# Altium schematic symbol library myschlib.SchLib: 79 symbols
Pins are listed as number, name and electrical type; pins without a type are passive.

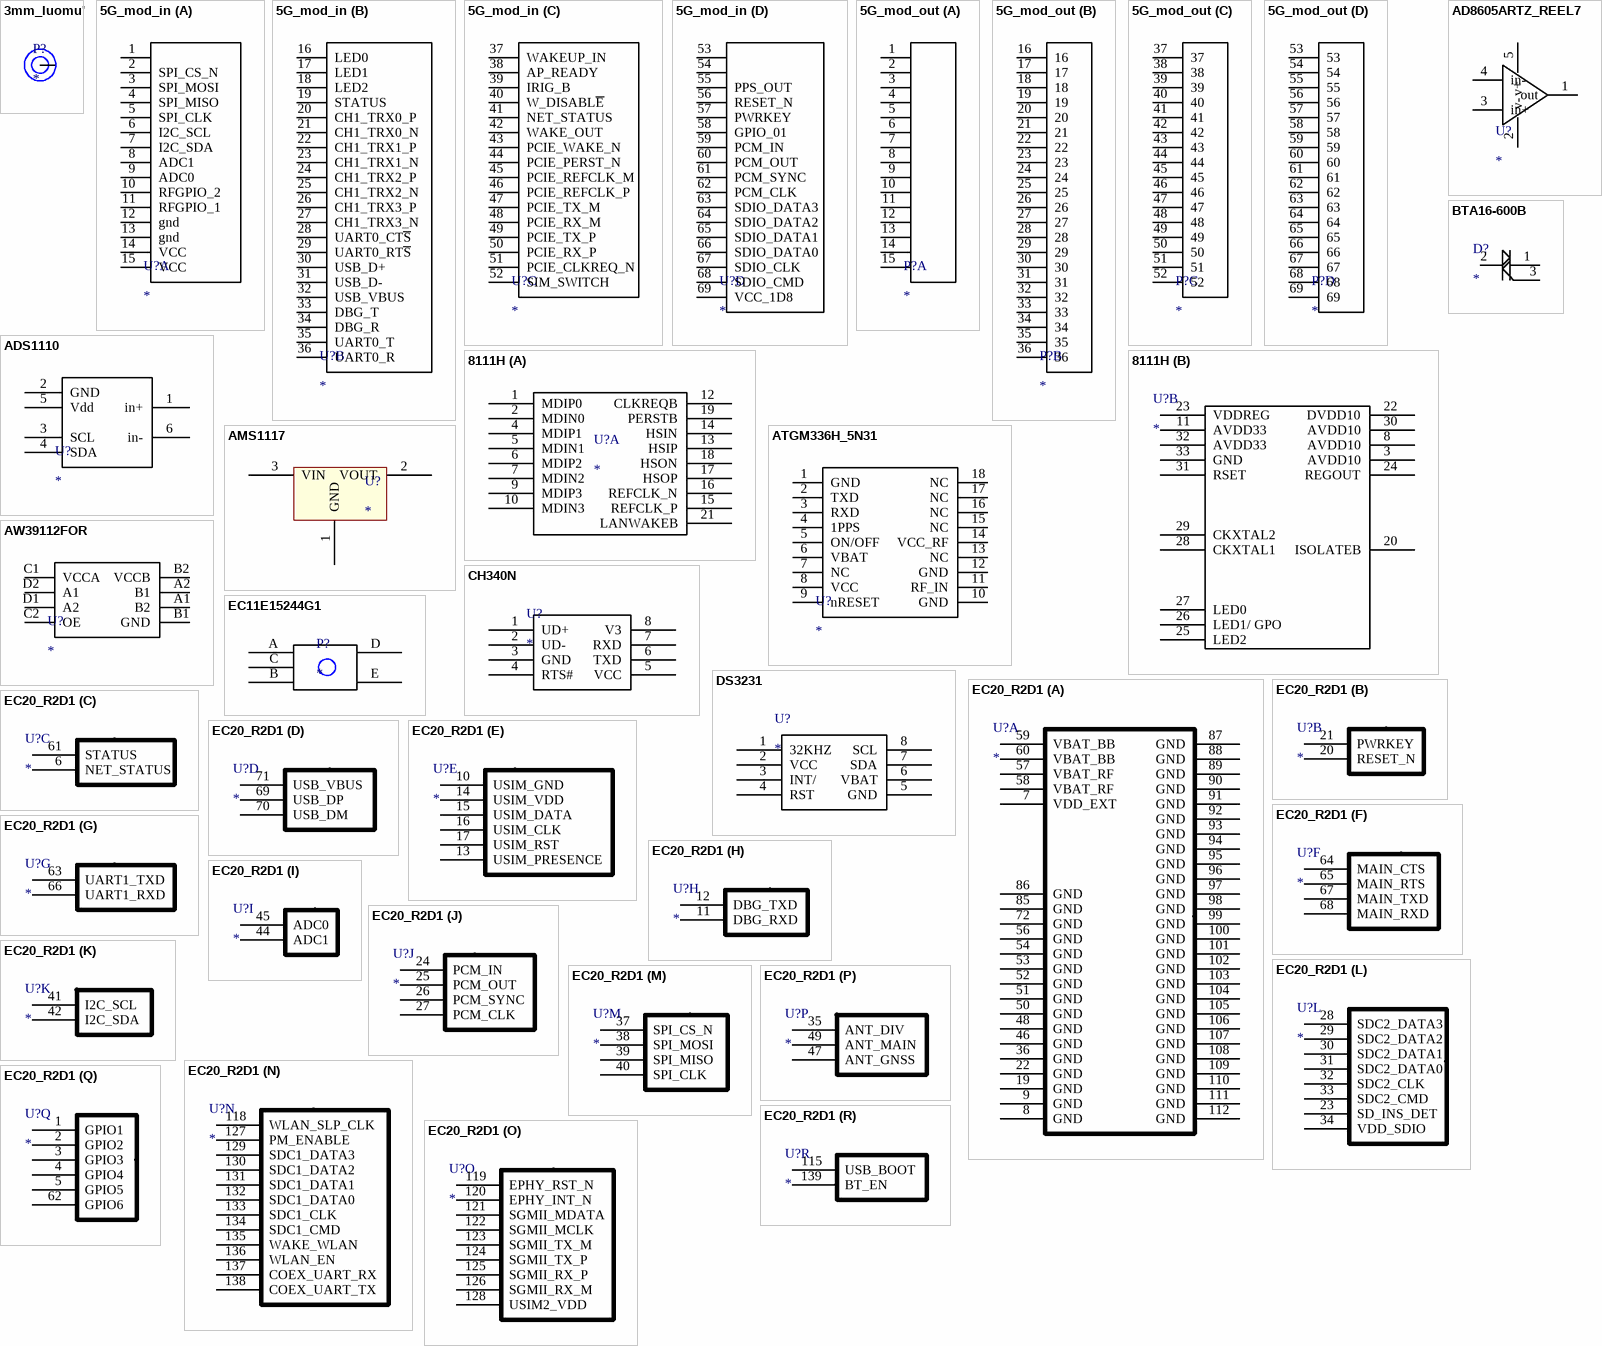
[diagram p0: symbols 3mm_luomu' to EC20_R2D1]

## 3mm_luomu'
designator P?
footprint 3mm_luokong
pins: 1 NA

## 5G_mod_in
designator U?
footprint 5GRMOD_DQQ
part A pins: 1, 2 SPI_CS_N, 3 SPI_MOSI, 4 SPI_MISO, 5 SPI_CLK, 6 I2C_SCL, 7 I2C_SDA, 8 ADC1, 9 ADC0, 10 RFGPIO_2, 11 RFGPIO_1, 12 gnd, 13 gnd, 14 VCC, 15 VCC
part B pins: 16 LED0, 17 LED1, 18 LED2, 19 STATUS, 20 CH1_TRX0_P, 21 CH1_TRX0_N, 22 CH1_TRX1_P, 23 CH1_TRX1_N, 24 CH1_TRX2_P, 25 CH1_TRX2_N, 26 CH1_TRX3_P, 27 CH1_TRX3_N, 28 UART0_CT~{S}, 29 UART0_RT~{S}, 30 USB_D+, 31 USB_D-, 32 USB_VBUS, 33 DBG_T, 34 DBG_R, 35 UART0_T, 36 UART0_R
part C pins: 37 WAKEUP_IN, 38 AP_READY, 39 IRIG_B, 40 W_DISABL~{E}, 41 NET_STATUS, 42 WAKE_OUT, 43 PCIE_WAKE_N, 44 PCIE_PERST_N, 45 PCIE_REFCLK_M, 46 PCIE_REFCLK_P, 47 PCIE_TX_M, 48 PCIE_RX_M, 49 PCIE_TX_P, 50 PCIE_RX_P, 51 PCIE_CLKREQ_N, 52 SIM_SWITCH
part D pins: 53, 54, 55 PPS_OUT, 56 RESET_N, 57 PWRKEY, 58 GPIO_01, 59 PCM_IN, 60 PCM_OUT, 61 PCM_SYNC, 62 PCM_CLK, 63 SDIO_DATA3, 64 SDIO_DATA2, 65 SDIO_DATA1, 66 SDIO_DATA0, 67 SDIO_CLK, 68 SDIO_CMD, 69 VCC_1D8

## 5G_mod_out
designator P?
footprint 5GRMOD_dq
part A pins: 1  , 2  , 3  , 4  , 5  , 6  , 7  , 8  , 9  , 10  , 11  , 12  , 13  , 14  , 15  
part B pins: 16, 17, 18, 19, 20, 21, 22, 23, 24, 25, 26, 27, 28, 29, 30, 31, 32, 33, 34, 35, 36
part C pins: 37, 38, 39, 40, 41, 42, 43, 44, 45, 46, 47, 48, 49, 50, 51, 52
part D pins: 53, 54, 55, 56, 57, 58, 59, 60, 61, 62, 63, 64, 65, 66, 67, 68, 69

## 8111H
designator U?
footprint QFN_32_EP_4x4
part A pins: 1 MDIP0, 2 MDIN0, 4 MDIP1, 5 MDIN1, 6 MDIP2, 7 MDIN2, 9 MDIP3, 10 MDIN3, 12 CLKREQB, 13 HSIP, 14 HSIN, 15 REFCLK_P, 16 REFCLK_N, 17 HSOP, 18 HSON, 19 PERSTB, 21 LANWAKEB
part B pins: 3 AVDD10, 8 AVDD10, 11 AVDD33, 20 ISOLATEB, 22 DVDD10, 23 VDDREG, 24 REGOUT, 25 LED2, 26 LED1/ GPO, 27 LED0, 28 CKXTAL1, 29 CKXTAL2, 30 AVDD10, 31 RSET, 32 AVDD33, 33 GND

## AD8605ARTZ_REEL7
designator U?
footprint SOT-23-5
pins: 1 out, 2 v-, 3 in+, 4 in-, 5 v+

## ADS1110
designator U?
footprint SOT-23-6
pins: 1 in+, 2 GND, 3 SCL, 4 SDA, 5 Vdd, 6 in-

## AMS1117
designator U?
footprint SOT223_4
pins: 1 GND, 2 VOUT, 3 VIN

## ATGM336H_5N31
designator U?
footprint LCC_18
pins: 1 GND, 2 TXD, 3 RXD, 4 1PPS, 5 ON/OFF, 6 VBAT, 7 NC, 8 VCC, 9 nRESET, 10 GND, 11 RF_IN, 12 GND, 13 NC, 14 VCC_RF, 15 NC, 16 NC, 17 NC, 18 NC

## AW39112FOR
designator U?
footprint FOWLP_8B
pins: A1 B2, A2 B1, B1 GND, B2 VCCB, C1 VCCA, C2 OE, D1 A2, D2 A1

## BTA16-600B
designator D?
footprint TO_220
pins: 1 T1, 2 T2, 3 G

## CH340N
designator U?
footprint SOP_8
pins: 1 UD+, 2 UD-, 3 GND, 4 RTS#, 5 VCC, 6 TXD, 7 RXD, 8 V3

## DS3231
designator U?
footprint SOIC_8
pins: 1 32KHZ, 2 VCC, 3 INT/, 4 RST, 5 GND, 6 VBAT, 7 SDA, 8 SCL

## EC11E15244G1
designator P?
footprint DIP_EC11
pins: A, B, C, D, E

## EC20_R2D1
designator U?
footprint LCC_144
part A pins: 7 VDD_EXT, 8 GND, 9 GND, 19 GND, 22 GND, 36 GND, 46 GND, 48 GND, 50 GND, 51 GND, 52 GND, 53 GND, 54 GND, 56 GND, 57 VBAT_RF, 58 VBAT_RF, 59 VBAT_BB, 60 VBAT_BB, 72 GND, 85 GND, 86 GND, 87 GND, 88 GND, 89 GND, 90 GND, 91 GND, 92 GND, 93 GND, 94 GND, 95 GND, 96 GND, 97 GND, 98 GND, 99 GND, 100 GND, 101 GND, 102 GND, 103 GND, 104 GND, 105 GND, 106 GND, 107 GND, 108 GND, 109 GND, 110 GND, 111 GND, 112 GND
part B pins: 20 RESET_N, 21 PWRKEY
part C pins: 6 NET_STATUS, 61 STATUS
part D pins: 69 USB_DP, 70 USB_DM, 71 USB_VBUS
part E pins: 10 USIM_GND, 13 USIM_PRESENCE, 14 USIM_VDD, 15 USIM_DATA, 16 USIM_CLK, 17 USIM_RST
part F pins: 64 MAIN_CTS, 65 MAIN_RTS, 67 MAIN_TXD, 68 MAIN_RXD
part G pins: 63 UART1_TXD, 66 UART1_RXD
part H pins: 11 DBG_RXD, 12 DBG_TXD
part I pins: 44 ADC1, 45 ADC0
part J pins: 24 PCM_IN, 25 PCM_OUT, 26 PCM_SYNC, 27 PCM_CLK
part K pins: 41 I2C_SCL, 42 I2C_SDA
part L pins: 23 SD_INS_DET, 28 SDC2_DATA3, 29 SDC2_DATA2, 30 SDC2_DATA1, 31 SDC2_DATA0, 32 SDC2_CLK, 33 SDC2_CMD, 34 VDD_SDIO
part M pins: 37 SPI_CS_N, 38 SPI_MOSI, 39 SPI_MISO, 40 SPI_CLK
part N pins: 118 WLAN_SLP_CLK, 127 PM_ENABLE, 129 SDC1_DATA3, 130 SDC1_DATA2, 131 SDC1_DATA1, 132 SDC1_DATA0, 133 SDC1_CLK, 134 SDC1_CMD, 135 WAKE_WLAN, 136 WLAN_EN, 137 COEX_UART_RX, 138 COEX_UART_TX
part O pins: 119 EPHY_RST_N, 120 EPHY_INT_N, 121 SGMII_MDATA, 122 SGMII_MCLK, 123 SGMII_TX_M , 124 SGMII_TX_P, 125 SGMII_RX_P, 126 SGMII_RX_M, 128 USIM2_VDD
part P pins: 35 ANT_DIV, 47 ANT_GNSS, 49 ANT_MAIN
part Q pins: 1 GPIO1, 2 GPIO2, 3 GPIO3, 4 GPIO4, 5 GPIO5, 62 GPIO6
part R pins: 115 USB_BOOT, 139 BT_EN

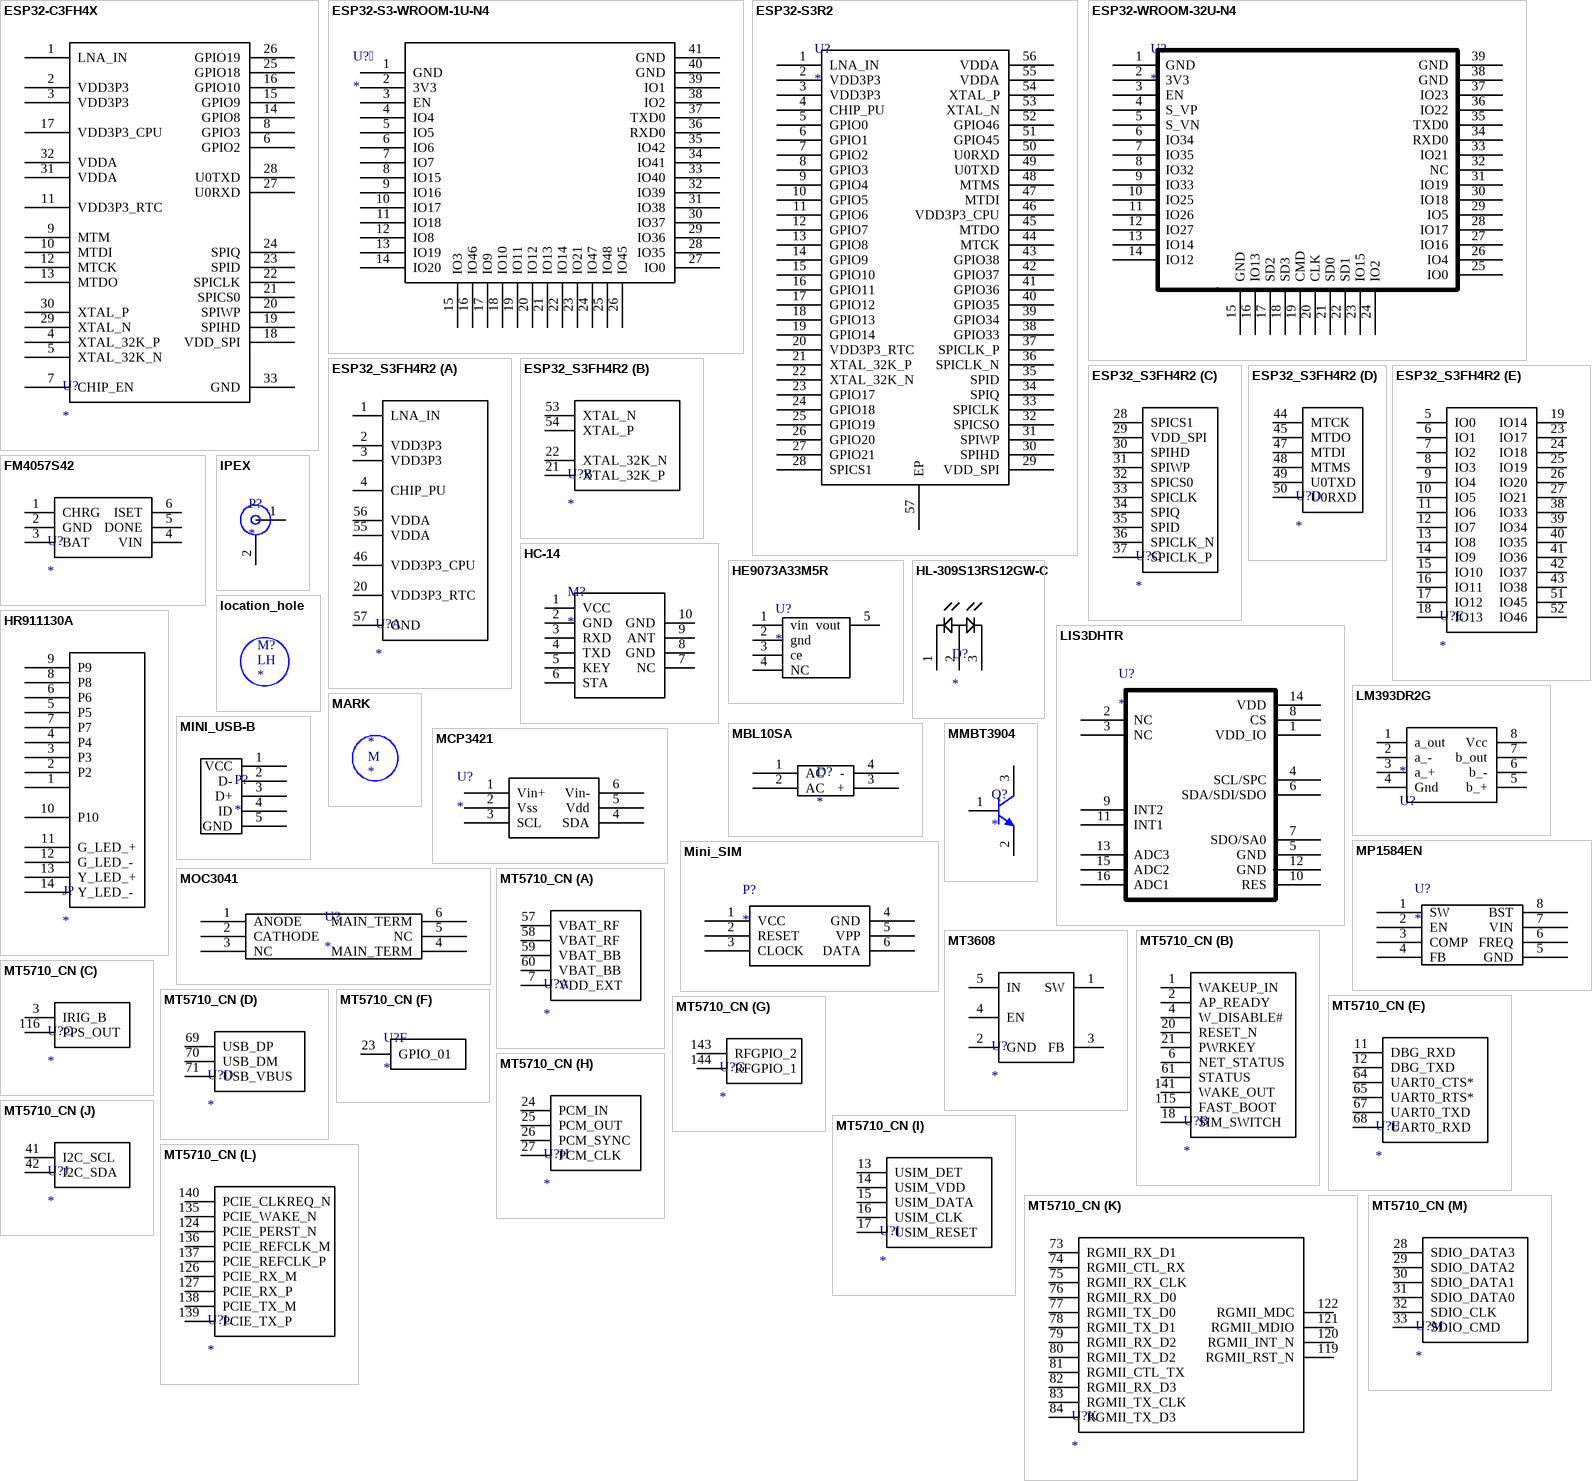
[diagram p1: symbols ESP32-C3FH4X to MT5710_CN]

## ESP32-C3FH4X
designator U?
footprint QFN_32_5x5
pins: 1 LNA_IN, 2 VDD3P3, 3 VDD3P3, 4 XTAL_32K_P, 5 XTAL_32K_N, 6 GPIO2, 7 CHIP_EN, 8 GPIO3, 9 MTM, 10 MTDI, 11 VDD3P3_RTC, 12 MTCK, 13 MTDO, 14 GPIO8, 15 GPIO9, 16 GPIO10, 17 VDD3P3_CPU, 18 VDD_SPI, 19 SPIHD, 20 SPIWP, 21 SPICS0, 22 SPICLK, 23 SPID, 24 SPIQ, 25 GPIO18, 26 GPIO19, 27 U0RXD, 28 U0TXD, 29 XTAL_N, 30 XTAL_P, 31 VDDA, 32 VDDA, 33 GND

## ESP32-S3-WROOM-1U-N4
designator U?
footprint ESP32_S3_WROOM_1U_N4
pins: 1 GND, 2 3V3, 3 EN, 4 IO4, 5 IO5, 6 IO6, 7 IO7, 8 IO15, 9 IO16, 10 IO17, 11 IO18, 12 IO8, 13 IO19, 14 IO20, 15 IO3, 16 IO46, 17 IO9, 18 IO10, 19 IO11, 20 IO12, 21 IO13, 22 IO14, 23 IO21, 24 IO47, 25 IO48, 26 IO45, 27 IO0, 28 IO35, 29 IO36, 30 IO37, 31 IO38, 32 IO39, 33 IO40, 34 IO41, 35 IO42, 36 RXD0, 37 TXD0, 38 IO2, 39 IO1, 40 GND, 41 GND

## ESP32-S3R2
designator U?
footprint QFN56_7X7
pins: 1 LNA_IN, 2 VDD3P3, 3 VDD3P3, 4 CHIP_PU, 5 GPIO0, 6 GPIO1, 7 GPIO2, 8 GPIO3, 9 GPIO4, 10 GPIO5, 11 GPIO6, 12 GPIO7, 13 GPIO8, 14 GPIO9, 15 GPIO10, 16 GPIO11, 17 GPIO12, 18 GPIO13, 19 GPIO14, 20 VDD3P3_RTC, 21 XTAL_32K_P, 22 XTAL_32K_N, 23 GPIO17, 24 GPIO18, 25 GPIO19, 26 GPIO20, 27 GPIO21, 28 SPICS1, 29 VDD_SPI, 30 SPIHD, 31 SPIWP, 32 SPICSO, 33 SPICLK, 34 SPIQ, 35 SPID, 36 SPICLK_N, 37 SPICLK_P, 38 GPIO33, 39 GPIO34, 40 GPIO35, 41 GPIO36, 42 GPIO37, 43 GPIO38, 44 MTCK, 45 MTDO, 46 VDD3P3_CPU, 47 MTDI, 48 MTMS, 49 U0TXD, 50 U0RXD, 51 GPIO45, 52 GPIO46, 53 XTAL_N, 54 XTAL_P, 55 VDDA, 56 VDDA, 57 EP

## ESP32-WROOM-32U-N4
designator U?
footprint ESP32_WROOM_32U
pins: 1 GND, 2 3V3, 3 EN, 4 S_VP, 5 S_VN, 6 IO34, 7 IO35, 8 IO32, 9 IO33, 10 IO25, 11 IO26, 12 IO27, 13 IO14, 14 IO12, 15 GND, 16 IO13, 17 SD2, 18 SD3, 19 CMD, 20 CLK, 21 SD0, 22 SD1, 23 IO15, 24 IO2, 25 IO0, 26 IO4, 27 IO16, 28 IO17, 29 IO5, 30 IO18, 31 IO19, 32 NC, 33 IO21, 34 RXD0, 35 TXD0, 36 IO22, 37 IO23, 38 GND, 39 GND

## ESP32_S3FH4R2
designator U?
footprint QFN_56_7x7
part A pins: 1 LNA_IN, 2 VDD3P3, 3 VDD3P3, 4 CHIP_PU, 20 VDD3P3_RTC, 46 VDD3P3_CPU, 55 VDDA, 56 VDDA, 57 GND
part B pins: 21 XTAL_32K_P, 22 XTAL_32K_N, 53 XTAL_N, 54 XTAL_P
part C pins: 28 SPICS1, 29 VDD_SPI, 30 SPIHD, 31 SPIWP, 32 SPICS0, 33 SPICLK, 34 SPIQ, 35 SPID, 36 SPICLK_N, 37 SPICLK_P
part D pins: 44 MTCK, 45 MTDO, 47 MTDI, 48 MTMS, 49 U0TXD, 50 U0RXD
part E pins: 5 IO0, 6 IO1, 7 IO2, 8 IO3, 9 IO4, 10 IO5, 11 IO6, 12 IO7, 13 IO8, 14 IO9, 15 IO10, 16 IO11, 17 IO12, 18 IO13, 19 IO14, 23 IO17, 24 IO18, 25 IO19, 26 IO20, 27 IO21, 38 IO33, 39 IO34, 40 IO35, 41 IO36, 42 IO37, 43 IO38, 51 IO45, 52 IO46

## FM4057S42
designator U?
footprint SOT-23-6
pins: 1 CHRG, 2 GND, 3 BAT, 4 VIN, 5 DONE, 6 ISET

## HC-14
designator M?
footprint HC_14
pins: 1 VCC, 2 GND, 3 RXD, 4 TXD, 5 KEY, 6 STA, 7 NC, 8 GND, 9 ANT, 10 GND

## HE9073A33M5R
designator U?
footprint SOT-23-5
pins: 1 vin, 2 gnd, 3 ce, 4 NC, 5 vout

## HL-309S13RS12GW-C
designator D?
2LED
pins: 1 GREEN, 2 COMMON_CATHODE, 3 RED

## HR911130A
designator J?
footprint RJ45_MagJack_14P
pins: 1, 2 P2, 3 P3, 4 P4, 5 P5, 6 P6, 7 P7, 8 P8, 9 P9, 10 P10, 11 G_LED_+, 12 G_LED_-, 13 Y_LED_+, 14 Y_LED_-

## IPEX
designator P?
footprint SMD_IPEX
pins: 1 RF_IN, 2 GND

## LIS3DHTR
designator U?
footprint LGA_16
pins: 1 VDD_IO, 2 NC, 3 NC, 4 SCL/SPC, 5 GND, 6 SDA/SDI/SDO, 7 SDO/SA0, 8 CS, 9 INT2, 10 RES, 11 INT1, 12 GND, 13 ADC3, 14 VDD, 15 ADC2, 16 ADC1

## LM393DR2G
designator *, comment U?
pins: 1 a_out, 2 a_-, 3 a_+, 4 Gnd, 5 b_+, 6 b_-, 7 b_out, 8 Vcc

## location_hole
designator M?
footprint location_hole
text: LH

## MARK
designator *
footprint MARK
text: M

## MBL10SA
designator D?
footprint MBLS
pins: 1 AC, 2 AC, 3 +, 4 -

## MCP3421
designator U?
pins: 1 Vin+, 2 Vss, 3 SCL, 4 SDA, 5 Vdd, 6 Vin-

## Mini_SIM
designator P?
footprint MiniSIM_card
pins: 1 VCC, 2 RESET, 3 CLOCK, 4 GND, 5 VPP, 6 DATA

## MINI_USB-B
designator P?
footprint MINI_USB_B
pins: 1 VCC, 2 D-, 3 D+, 4 ID, 5 GND

## MMBT3904
designator Q?
footprint SOT23
pins: 1 B, 2 E, 3 C

## MOC3041
designator U?
footprint DIP6
pins: 1 ANODE, 2 CATHODE, 3 NC, 4 MAIN_TERM, 5 NC, 6 MAIN_TERM

## MP1584EN
designator U?
footprint SOIC_8
pins: 1 SW, 2 EN, 3 COMP, 4 FB, 5 GND, 6 FREQ, 7 VIN, 8 BST

## MT3608
designator U?
footprint SOT-23-6
pins: 1 SW, 2 GND, 3 FB, 4 EN, 5 IN

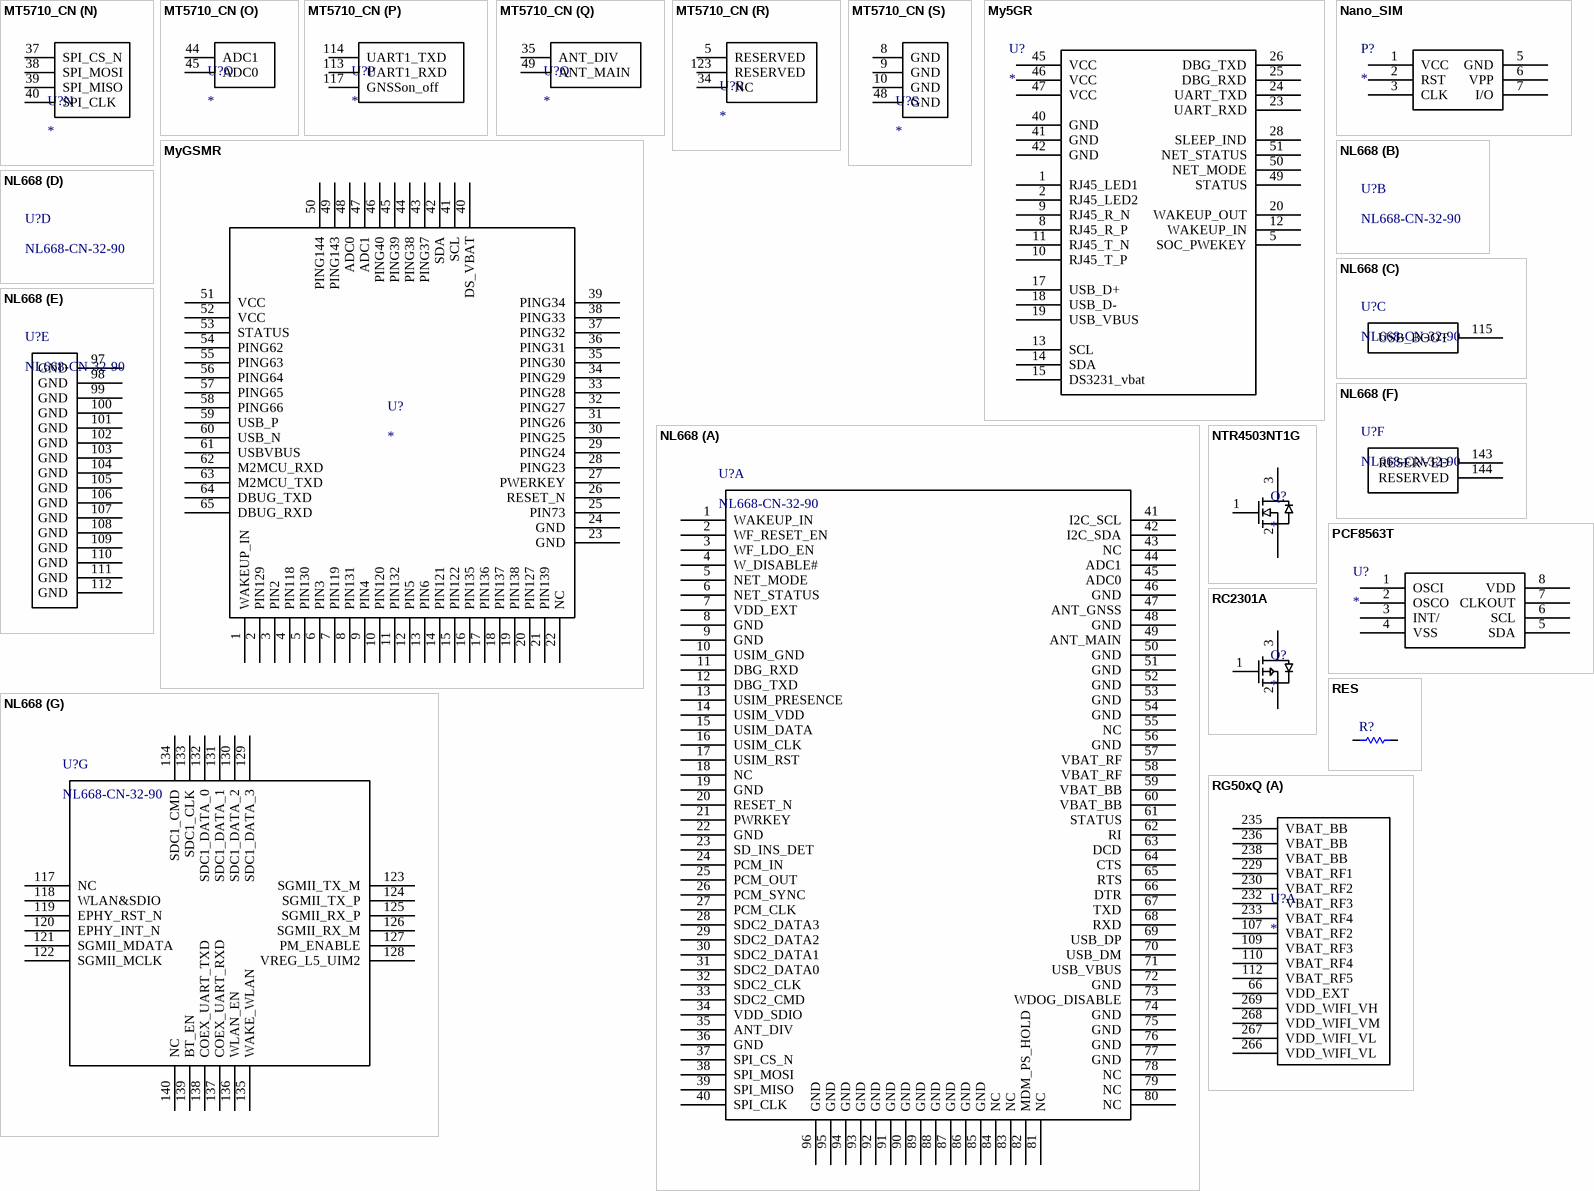
[diagram p2: symbols MT5710_CN to RG50xQ]

## MT5710_CN
designator U?
part A pins: 7 VDD_EXT, 57 VBAT_RF, 58 VBAT_RF, 59 VBAT_BB, 60 VBAT_BB
part B pins: 1 WAKEUP_IN, 2 AP_READY, 4 W_DISABLE#, 6 NET_STATUS , 18 SIM_SWITCH, 20 RESET_N, 21 PWRKEY, 61 STATUS, 115 FAST_BOOT, 141 WAKE_OUT
part C pins: 3 IRIG_B, 116 PPS_OUT
part D pins: 69 USB_DP, 70 USB_DM, 71 USB_VBUS
part E pins: 11 DBG_RXD, 12 DBG_TXD, 64 UART0_CTS*, 65 UART0_RTS*, 67 UART0_TXD, 68 UART0_RXD
part F pins: 23 GPIO_01
part G pins: 143 RFGPIO_2, 144 RFGPIO_1
part H pins: 24 PCM_IN, 25 PCM_OUT, 26 PCM_SYNC, 27 PCM_CLK
part I pins: 13 USIM_DET, 14 USIM_VDD, 15 USIM_DATA, 16 USIM_CLK, 17 USIM_RESET
part J pins: 41 I2C_SCL, 42 I2C_SDA
part K pins: 73 RGMII_RX_D1, 74 RGMII_CTL_RX, 75 RGMII_RX_CLK , 76 RGMII_RX_D0, 77 RGMII_TX_D0, 78 RGMII_TX_D1, 79 RGMII_RX_D2 , 80 RGMII_TX_D2, 81 RGMII_CTL_TX, 82 RGMII_RX_D3, 83 RGMII_TX_CLK, 84 RGMII_TX_D3, 119 RGMII_RST_N, 120 RGMII_INT_N, 121 RGMII_MDIO, 122 RGMII_MDC
part L pins: 124 PCIE_PERST_N, 126 PCIE_RX_M, 127 PCIE_RX_P, 135 PCIE_WAKE_N, 136 PCIE_REFCLK_M, 137 PCIE_REFCLK_P, 138 PCIE_TX_M, 139 PCIE_TX_P, 140 PCIE_CLKREQ_N
part M pins: 28 SDIO_DATA3, 29 SDIO_DATA2, 30 SDIO_DATA1, 31 SDIO_DATA0, 32 SDIO_CLK, 33 SDIO_CMD
part N pins: 37 SPI_CS_N, 38 SPI_MOSI, 39 SPI_MISO, 40 SPI_CLK
part O pins: 44 ADC1, 45 ADC0
part P pins: 113 UART1_RXD, 114 UART1_TXD, 117 GNSSon_off
part Q pins: 35 ANT_DIV, 49 ANT_MAIN
part R pins: 5 RESERVED, 34 NC, 123 RESERVED
part S pins: 8 GND, 9 GND, 10 GND, 48 GND

## My5GR
designator U?
footprint MLCC_module_56
pins: 1 RJ45_LED1, 2 RJ45_LED2, 5 SOC_PWEKEY, 8 RJ45_R_P, 9 RJ45_R_N, 10 RJ45_T_P, 11 RJ45_T_N, 12 WAKEUP_IN, 13 SCL, 14 SDA, 15 DS3231_vbat, 17 USB_D+, 18 USB_D-, 19 USB_VBUS, 20 WAKEUP_OUT, 23 UART_RXD, 24 UART_TXD, 25 DBG_RXD, 26 DBG_TXD, 28 SLEEP_IND, 40 GND, 41 GND, 42 GND, 45 VCC, 46 VCC, 47 VCC, 49 STATUS, 50 NET_MODE, 51 NET_STATUS

## MyGSMR
designator U?
footprint MLCC_module_65
pins: 1 WAKEUP_IN, 2 PIN129, 3 PIN2, 4 PIN118, 5 PIN130, 6 PIN3, 7 PIN119, 8 PIN131, 9 PIN4, 10 PIN120, 11 PIN132, 12 PIN5, 13 PIN6, 14 PIN121, 15 PIN122, 16 PIN135, 17 PIN136, 18 PIN137, 19 PIN138, 20 PIN127, 21 PIN139, 22 NC, 23 GND, 24 GND, 25 PIN73, 26 RESET_N, 27 PWERKEY, 28 PING23, 29 PING24, 30 PING25, 31 PING26, 32 PING27, 33 PING28, 34 PING29, 35 PING30, 36 PING31, 37 PING32, 38 PING33, 39 PING34, 40 DS_VBAT, 41 SCL, 42 SDA, 43 PING37, 44 PING38, 45 PING39, 46 PING40, 47 ADC1, 48 ADC0, 49 PING143, 50 PING144, 51 VCC, 52 VCC, 53 STATUS, 54 PING62, 55 PING63, 56 PING64, 57 PING65, 58 PING66, 59 USB_P, 60 USB_N, 61 USBVBUS, 62 M2MCU_RXD, 63 M2MCU_TXD, 64 DBUG_TXD, 65 DBUG_RXD

## Nano_SIM
designator P?
footprint NanoSIM_card
pins: 1 VCC, 2 RST, 3 CLK, 5 GND, 6 VPP, 7 I/O

## NL668
designator U?, comment NL668-CN-32-90
footprint LCC_144
part A pins: 1 WAKEUP_IN, 2 WF_RESET_EN, 3 WF_LDO_EN, 4 W_DISABLE#, 5 NET_MODE, 6 NET_STATUS, 7 VDD_EXT, 8 GND, 9 GND, 10 USIM_GND, 11 DBG_RXD, 12 DBG_TXD, 13 USIM_PRESENCE, 14 USIM_VDD, 15 USIM_DATA, 16 USIM_CLK, 17 USIM_RST, 18 NC, 19 GND, 20 RESET_N, 21 PWRKEY, 22 GND, 23 SD_INS_DET, 24 PCM_IN, 25 PCM_OUT, 26 PCM_SYNC, 27 PCM_CLK, 28 SDC2_DATA3, 29 SDC2_DATA2, 30 SDC2_DATA1, 31 SDC2_DATA0, 32 SDC2_CLK, 33 SDC2_CMD, 34 VDD_SDIO, 35 ANT_DIV, 36 GND, 37 SPI_CS_N, 38 SPI_MOSI, 39 SPI_MISO, 40 SPI_CLK, 41 I2C_SCL, 42 I2C_SDA, 43 NC, 44 ADC1, 45 ADC0, 46 GND, 47 ANT_GNSS, 48 GND, 49 ANT_MAIN, 50 GND, 51 GND, 52 GND, 53 GND, 54 GND, 55 NC, 56 GND, 57 VBAT_RF, 58 VBAT_RF, 59 VBAT_BB, 60 VBAT_BB, 61 STATUS, 62 RI, 63 DCD, 64 CTS, 65 RTS, 66 DTR, 67 TXD, 68 RXD, 69 USB_DP, 70 USB_DM, 71 USB_VBUS, 72 GND, 73 WDOG_DISABLE, 74 GND, 75 GND, 76 GND, 77 GND, 78 NC, 79 NC, 80 NC, 81 NC, 82 MDM_PS_HOLD, 83 NC, 84 NC, 85 GND, 86 GND, 87 GND, 88 GND, 89 GND, 90 GND, 91 GND, 92 GND, 93 GND, 94 GND, 95 GND, 96 GND
part C pins: 115 USB_BOOT
part E pins: 97 GND, 98 GND, 99 GND, 100 GND, 101 GND, 102 GND, 103 GND, 104 GND, 105 GND, 106 GND, 107 GND, 108 GND, 109 GND, 110 GND, 111 GND, 112 GND
part F pins: 143 RESERVED, 144 RESERVED
part G pins: 117 NC, 118 WLAN&SDIO, 119 EPHY_RST_N, 120 EPHY_INT_N, 121 SGMII_MDATA, 122 SGMII_MCLK, 123 SGMII_TX_M, 124 SGMII_TX_P, 125 SGMII_RX_P, 126 SGMII_RX_M, 127 PM_ENABLE, 128 VREG_L5_UIM2, 129 SDC1_DATA_3, 130 SDC1_DATA_2, 131 SDC1_DATA_1, 132 SDC1_DATA_0, 133 SDC1_CLK, 134 SDC1_CMD, 135 WAKE_WLAN, 136 WLAN_EN, 137 COEX_UART_RXD, 138 COEX_UART_TXD, 139 BT_EN, 140 NC

## NTR4503NT1G
designator Q?
footprint SOT23_3
pins: 1 G, 2 S, 3 D

## PCF8563T
designator U?
AIP8563SA8.TR
footprint SOP_8
pins: 1 OSCI, 2 OSCO, 3 INT/, 4 VSS, 5 SDA, 6 SCL, 7 CLKOUT, 8 VDD

## RC2301A
designator Q?
footprint SOT23
pins: 1 G, 2 S, 3 D

## RES
designator R?
pins: 1, 2

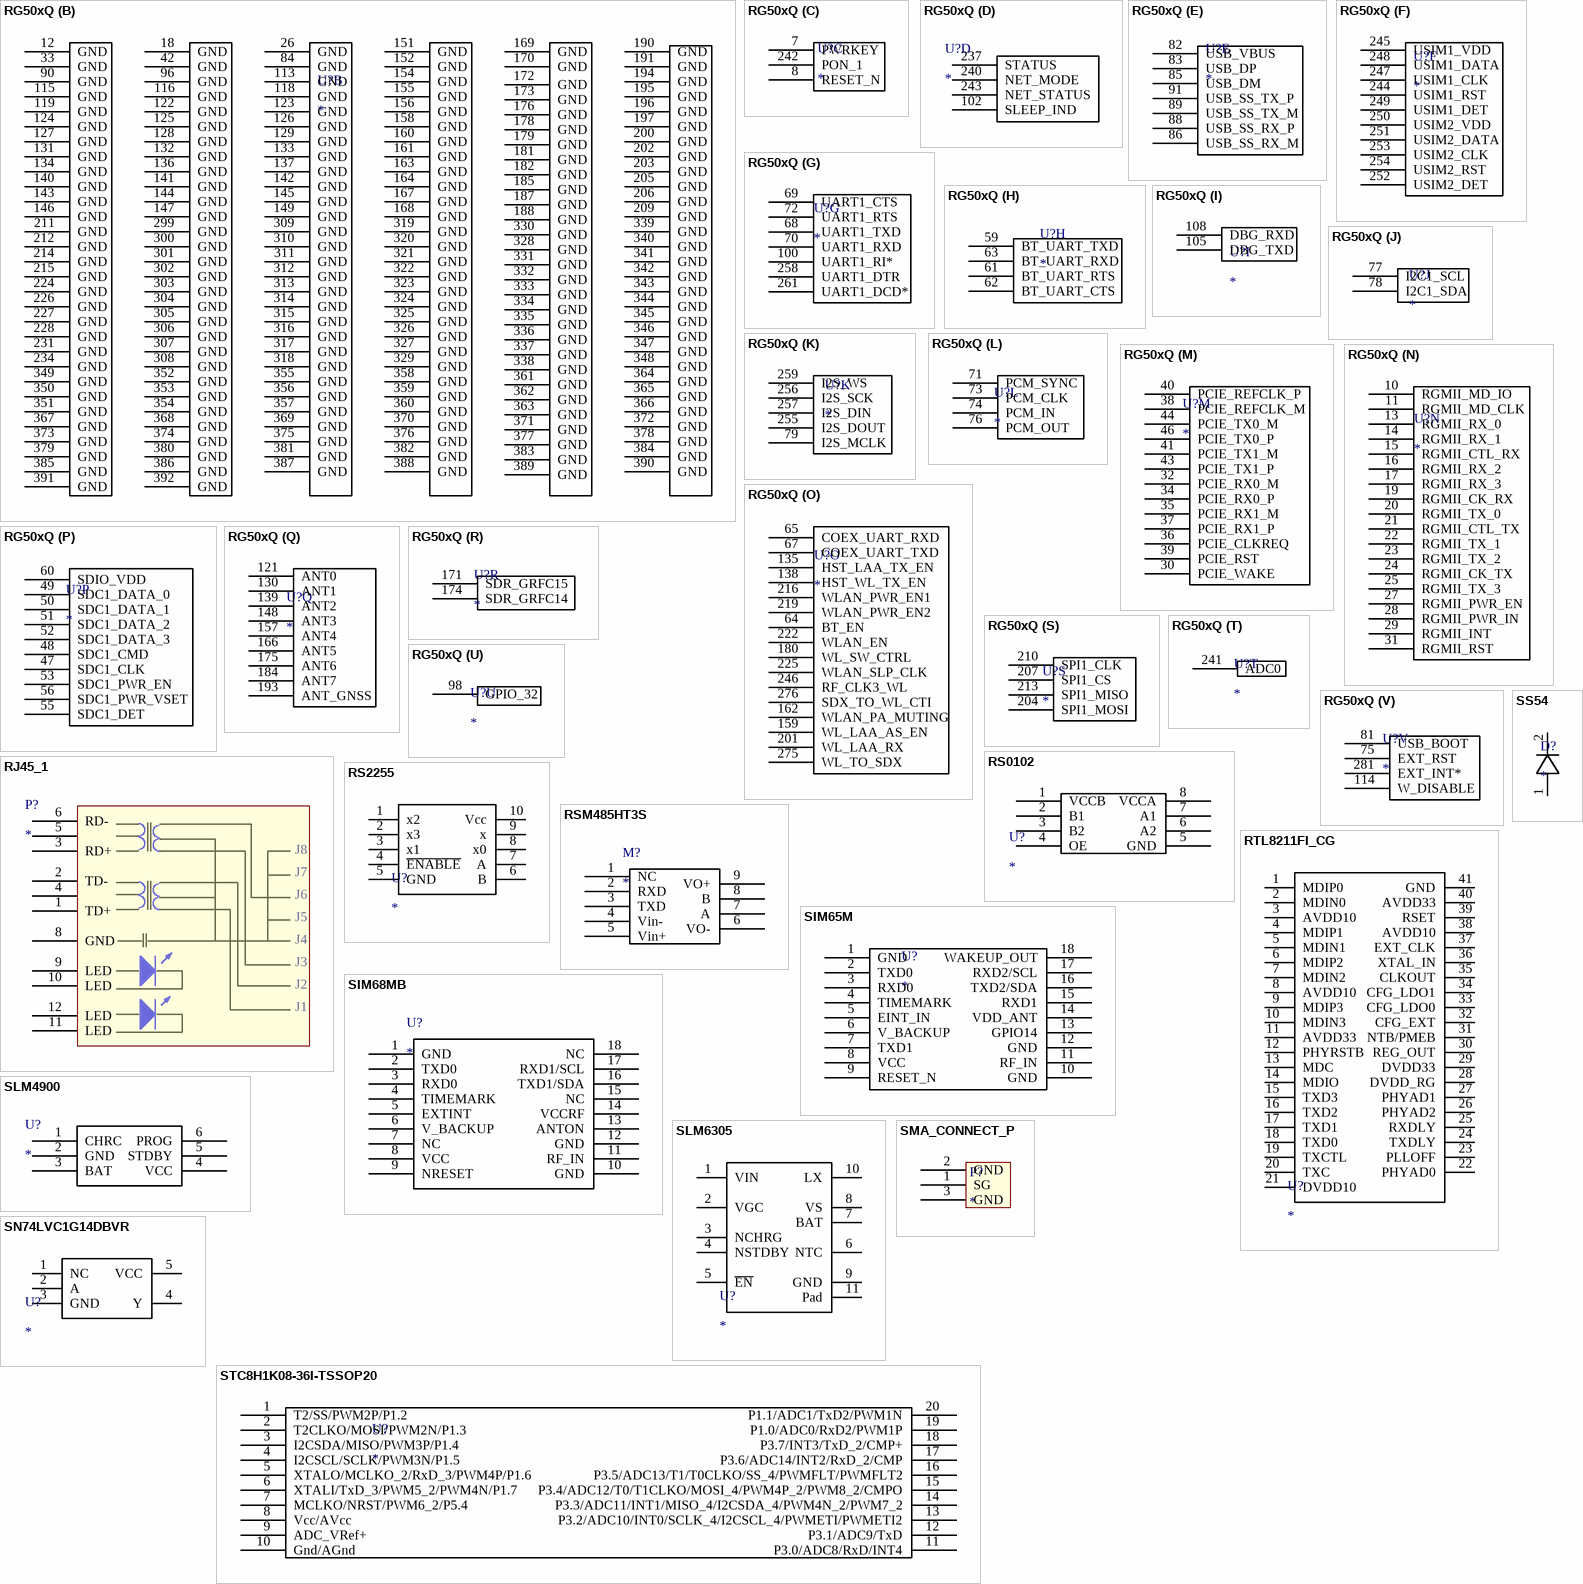
[diagram p3: symbols RG50xQ to STC8H1K08-36I-TSSOP20]

## RG50xQ
designator U?
footprint LGA_RG50xQ
part A pins: 66 VDD_EXT, 107 VBAT_RF2, 109 VBAT_RF3, 110 VBAT_RF4, 112 VBAT_RF5, 229 VBAT_RF1, 230 VBAT_RF2, 232 VBAT_RF3, 233 VBAT_RF4, 235 VBAT_BB, 236 VBAT_BB, 238 VBAT_BB, 266 VDD_WIFI_VL, 267 VDD_WIFI_VL, 268 VDD_WIFI_VM, 269 VDD_WIFI_VH
part B pins: 12 GND, 18 GND, 26 GND, 33 GND, 42 GND, 84 GND, 90 GND, 96 GND, 113 GND, 115 GND, 116 GND, 118 GND, 119 GND, 122 GND, 123 GND, 124 GND, 125 GND, 126 GND, 127 GND, 128 GND, 129 GND, 131 GND, 132 GND, 133 GND, 134 GND, 136 GND, 137 GND, 140 GND, 141 GND, 142 GND, 143 GND, 144 GND, 145 GND, 146 GND, 147 GND, 149 GND, 151 GND, 152 GND, 154 GND, 155 GND, 156 GND, 158 GND, 160 GND, 161 GND, 163 GND, 164 GND, 167 GND, 168 GND, 169 GND, 170 GND, 172 GND, 173 GND, 176 GND, 178 GND, 179 GND, 181 GND, 182 GND, 185 GND, 187 GND, 188 GND, 190 GND, 191 GND, 194 GND, 195 GND, 196 GND, 197 GND, 200 GND, 202 GND, 203 GND, 205 GND, 206 GND, 209 GND, 211 GND, 212 GND, 214 GND, 215 GND, 224 GND, 226 GND, 227 GND, 228 GND, 231 GND, 234 GND, 299 GND, 300 GND, 301 GND, 302 GND, 303 GND, 304 GND, 305 GND, 306 GND, 307 GND, 308 GND, 309 GND, 310 GND, 311 GND, 312 GND, 313 GND, 314 GND, 315 GND, 316 GND, 317 GND, 318 GND, 319 GND, 320 GND, 321 GND, 322 GND, 323 GND, 324 GND, 325 GND, 326 GND, 327 GND, 328 GND, 329 GND, 330 GND, 331 GND, 332 GND, 333 GND, 334 GND, 335 GND, 336 GND, 337 GND, 338 GND, 339 GND, 340 GND, 341 GND, 342 GND, 343 GND, 344 GND, 345 GND, 346 GND, 347 GND, 348 GND, 349 GND, 350 GND, 351 GND, 352 GND, 353 GND, 354 GND, 355 GND, 356 GND, 357 GND, 358 GND, 359 GND, 360 GND, 361 GND, 362 GND, 363 GND, 364 GND, 365 GND, 366 GND, 367 GND, 368 GND, 369 GND, 370 GND, 371 GND, 372 GND, 373 GND, 374 GND, 375 GND, 376 GND, 377 GND, 378 GND, 379 GND, 380 GND, 381 GND, 382 GND, 383 GND, 384 GND, 385 GND, 386 GND, 387 GND, 388 GND, 389 GND, 390 GND, 391 GND, 392 GND
part C pins: 7 PWRKEY, 8 RESET_N, 242 PON_1
part D pins: 102 SLEEP_IND, 237 STATUS, 240 NET_MODE, 243 NET_STATUS
part E pins: 82 USB_VBUS, 83 USB_DP, 85 USB_DM, 86 USB_SS_RX_M, 88 USB_SS_RX_P, 89 USB_SS_TX_M, 91 USB_SS_TX_P
part F pins: 244 USIM1_RST, 245 USIM1_VDD, 247 USIM1_CLK, 248 USIM1_DATA, 249 USIM1_DET, 250 USIM2_VDD, 251 USIM2_DATA, 252 USIM2_DET, 253 USIM2_CLK, 254 USIM2_RST
part G pins: 68 UART1_TXD, 69 UART1_CTS, 70 UART1_RXD, 72 UART1_RTS, 100 UART1_RI*, 258 UART1_DTR, 261 UART1_DCD*
part H pins: 59 BT_UART_TXD, 61 BT_UART_RTS, 62 BT_UART_CTS, 63 BT_UART_RXD
part I pins: 105 DBG_TXD, 108 DBG_RXD
part J pins: 77 I2C1_SCL, 78 I2C1_SDA
part K pins: 79 I2S_MCLK, 255 I2S_DOUT, 256 I2S_SCK, 257 I2S_DIN, 259 I2S_WS
part L pins: 71 PCM_SYNC, 73 PCM_CLK, 74 PCM_IN, 76 PCM_OUT
part M pins: 30 PCIE_WAKE, 32 PCIE_RX0_M, 34 PCIE_RX0_P, 35 PCIE_RX1_M, 36 PCIE_CLKREQ, 37 PCIE_RX1_P, 38 PCIE_REFCLK_M, 39 PCIE_RST, 40 PCIE_REFCLK_P, 41 PCIE_TX1_M, 43 PCIE_TX1_P, 44 PCIE_TX0_M, 46 PCIE_TX0_P
part N pins: 10 RGMII_MD_IO, 11 RGMII_MD_CLK, 13 RGMII_RX_0, 14 RGMII_RX_1, 15 RGMII_CTL_RX, 16 RGMII_RX_2, 17 RGMII_RX_3, 19 RGMII_CK_RX, 20 RGMII_TX_0, 21 RGMII_CTL_TX, 22 RGMII_TX_1, 23 RGMII_TX_2, 24 RGMII_CK_TX, 25 RGMII_TX_3, 27 RGMII_PWR_EN, 28 RGMII_PWR_IN, 29 RGMII_INT, 31 RGMII_RST
part O pins: 64 BT_EN, 65 COEX_UART_RXD, 67 COEX_UART_TXD, 135 HST_LAA_TX_EN, 138 HST_WL_TX_EN , 159 WL_LAA_AS_EN, 162 WLAN_PA_MUTING, 180 WL_SW_CTRL, 201 WL_LAA_RX, 216 WLAN_PWR_EN1, 219 WLAN_PWR_EN2 , 222 WLAN_EN, 225 WLAN_SLP_CLK, 246 RF_CLK3_WL, 275 WL_TO_SDX, 276 SDX_TO_WL_CTI
part P pins: 47 SDC1_CLK, 48 SDC1_CMD, 49 SDC1_DATA_0, 50 SDC1_DATA_1, 51 SDC1_DATA_2, 52 SDC1_DATA_3, 53 SDC1_PWR_EN, 55 SDC1_DET, 56 SDC1_PWR_VSET, 60 SDIO_VDD
part Q pins: 121 ANT0, 130 ANT1, 139 ANT2, 148 ANT3, 157 ANT4, 166 ANT5, 175 ANT6, 184 ANT7, 193 ANT_GNSS
part R pins: 171 SDR_GRFC15, 174 SDR_GRFC14
part S pins: 204 SPI1_MOSI, 207 SPI1_CS, 210 SPI1_CLK, 213 SPI1_MISO
part T pins: 241 ADC0
part U pins: 98 GPIO_32
part V pins: 75 EXT_RST, 81 USB_BOOT, 114 W_DISABLE, 281 EXT_INT*

## RJ45_1
designator P?
footprint RJ45
pins: 1 TD+, 2 TD-, 3 RD+, 4  , 5  , 6 RD-, 8 GND, 9 LED, 10 LED, 11 LED, 12 LED
text: J8; J7; J6; J5; J4; J3; J2; J1

## RS0102
designator U?
footprint SOT_23_8
pins: 1 VCCB, 2 B1, 3 B2, 4 OE, 5 GND, 6 A2, 7 A1, 8 VCCA

## RS2255
designator U?
footprint MSOP_10
pins: 1 x2, 2 x3, 3 x1, 4 ~{ENABLE}, 5 GND, 6 B, 7 A, 8 x0, 9 x, 10 Vcc

## RSM485HT3S
designator M?
footprint RSM485HT3S_PCB
pins: 1 NC, 2 RXD, 3 TXD, 4 Vin-, 5 Vin+, 6 VO-, 7 A, 8 B, 9 VO+

## RTL8211FI_CG
designator U?
footprint QFN40_5X5
pins: 1 MDIP0, 2 MDIN0, 3 AVDD10, 4 MDIP1, 5 MDIN1, 6 MDIP2, 7 MDIN2, 8 AVDD10, 9 MDIP3, 10 MDIN3, 11 AVDD33, 12 PHYRSTB, 13 MDC, 14 MDIO, 15 TXD3, 16 TXD2, 17 TXD1, 18 TXD0, 19 TXCTL, 20 TXC, 21 DVDD10, 22 PHYAD0, 23 PLLOFF, 24 TXDLY, 25 RXDLY, 26 PHYAD2, 27 PHYAD1, 28 DVDD_RG, 29 DVDD33, 30 REG_OUT, 31 NTB/PMEB, 32 CFG_EXT, 33 CFG_LDO0, 34 CFG_LDO1, 35 CLKOUT, 36 XTAL_IN, 37 EXT_CLK, 38 AVDD10, 39 RSET, 40 AVDD33, 41 GND

## SIM65M
designator U?
footprint LCC_18
pins: 1 GND, 2 TXD0, 3 RXD0, 4 TIMEMARK, 5 EINT_IN, 6 V_BACKUP, 7 TXD1, 8 VCC, 9 RESET_N, 10 GND, 11 RF_IN, 12 GND, 13 GPIO14, 14 VDD_ANT, 15 RXD1, 16 TXD2/SDA, 17 RXD2/SCL, 18 WAKEUP_OUT

## SIM68MB
designator U?
footprint LCC_18
pins: 1 GND, 2 TXD0, 3 RXD0, 4 TIMEMARK, 5 EXTINT, 6 V_BACKUP, 7 NC, 8 VCC, 9 NRESET, 10 GND, 11 RF_IN, 12 GND, 13 ANTON, 14 VCCRF, 15 NC, 16 TXD1/SDA, 17 RXD1/SCL, 18 NC

## SLM4900
designator U?
pins: 1 CHRC, 2 GND, 3 BAT, 4 VCC, 5 STDBY, 6 PROG

## SLM6305
designator U?
footprint DFN_3X3_10P
pins: 1 VIN, 2 VGC, 3 NCHRG, 4 NSTDBY, 5 ~{EN}, 6 NTC, 7 BAT, 8 VS, 9 GND, 10 LX, 11 Pad

## SMA_CONNECT_P
designator P?
footprint SMA_CONNECT_P
pins: 1 SG, 2 GND, 3 GND

## SN74LVC1G14DBVR
designator U?
footprint SOT-23-5
pins: 1 NC, 2 A, 3 GND, 4 Y, 5 VCC

## SS54
designator D?
footprint DSMA
pins: 1 +, 2 -

## STC8H1K08-36I-TSSOP20
designator U?
footprint TSSOP20
pins: 1 T2/SS/PWM2P/P1.2, 2 T2CLKO/MOSI/PWM2N/P1.3, 3 I2CSDA/MISO/PWM3P/P1.4, 4 I2CSCL/SCLK/PWM3N/P1.5, 5 XTALO/MCLKO_2/RxD_3/PWM4P/P1.6, 6 XTALI/TxD_3/PWM5_2/PWM4N/P1.7, 7 MCLKO/NRST/PWM6_2/P5.4, 8 Vcc/AVcc, 9 ADC_VRef+, 10 Gnd/AGnd, 11 P3.0/ADC8/RxD/INT4, 12 P3.1/ADC9/TxD, 13 P3.2/ADC10/INT0/SCLK_4/I2CSCL_4/PWMETI/PWMETI2, 14 P3.3/ADC11/INT1/MISO_4/I2CSDA_4/PWM4N_2/PWM7_2, 15 P3.4/ADC12/T0/T1CLKO/MOSI_4/PWM4P_2/PWM8_2/CMPO, 16 P3.5/ADC13/T1/T0CLKO/SS_4/PWMFLT/PWMFLT2, 17 P3.6/ADC14/INT2/RxD_2/CMP, 18 P3.7/INT3/TxD_2/CMP+, 19 P1.0/ADC0/RxD2/PWM1P, 20 P1.1/ADC1/TxD2/PWM1N

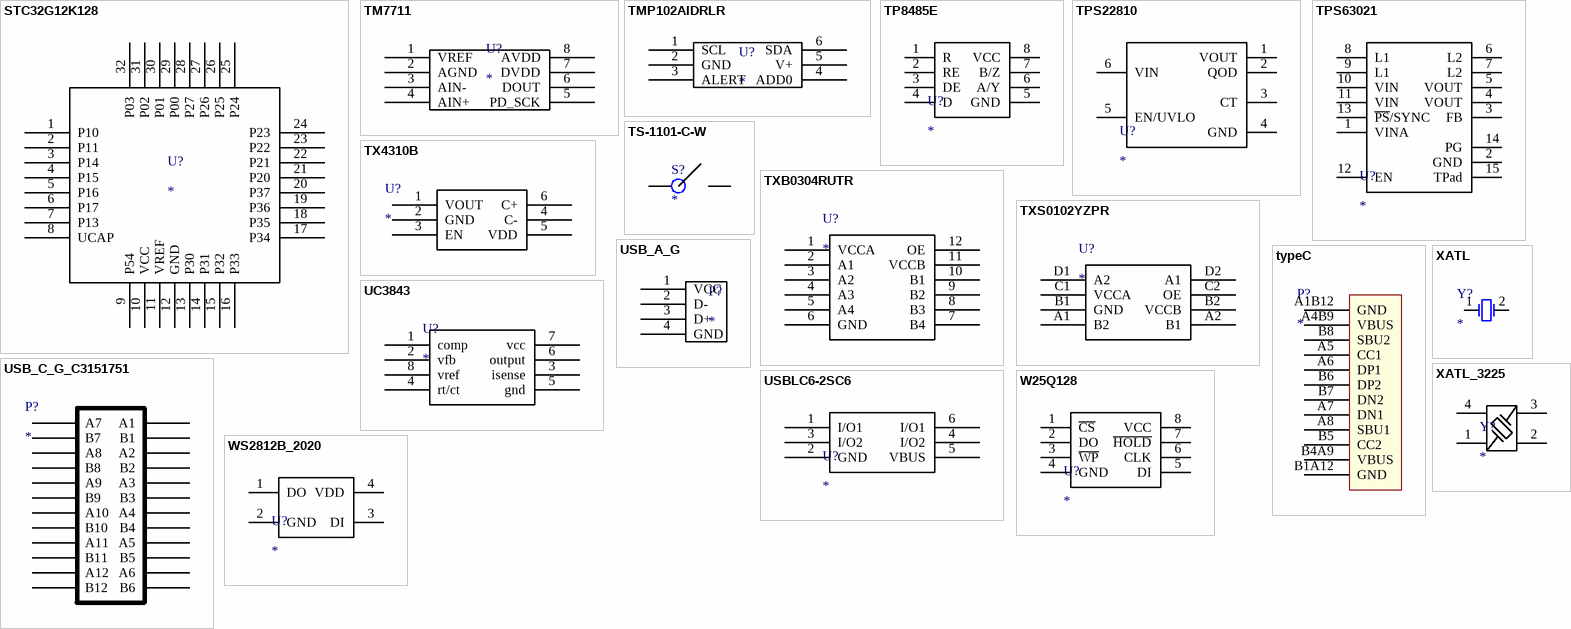
[diagram p4: symbols STC32G12K128 to XATL_3225]

## STC32G12K128
designator U?
footprint LQFP32_7X7
pins: 1 P10, 2 P11, 3 P14, 4 P15, 5 P16, 6 P17, 7 P13, 8 UCAP, 9 P54, 10 VCC, 11 VREF, 12 GND, 13 P30, 14 P31, 15 P32, 16 P33, 17 P34, 18 P35, 19 P36, 20 P37, 21 P20, 22 P21, 23 P22, 24 P23, 25 P24, 26 P25, 27 P26, 28 P27, 29 P00, 30 P01, 31 P02, 32 P03

## TM7711
designator U?
footprint SOP_8
pins: 1 VREF, 2 AGND, 3 AIN-, 4 AIN+, 5 PD_SCK, 6 DOUT, 7 DVDD, 8 AVDD

## TMP102AIDRLR
designator U?
footprint SOT563
pins: 1 SCL, 2 GND, 3 ALERT, 4 ADD0, 5 V+, 6 SDA

## TP8485E
designator U?
footprint SOIC_8
pins: 1 R, 2 RE, 3 DE, 4 D, 5 GND, 6 A/Y, 7 B/Z, 8 VCC

## TPS22810
designator U?
footprint WSON_6P
pins: 1 VOUT, 2 QOD, 3 CT, 4 GND, 5 EN/UVLO, 6 VIN

## TPS63021
designator U?
footprint VSON_14P
pins: 1 VINA, 2 GND, 3 FB, 4 VOUT, 5 VOUT, 6 L2, 7 L2, 8 L1, 9 L1, 10 VIN, 11 VIN, 12 EN, 13 ~{PS}/SYNC, 14 PG, 15 TPad

## TS-1101-C-W
designator S?
footprint TS_1101_C_W
pins: 1, 2

## TX4310B
designator U?
C448640
pins: 1 VOUT, 2 GND, 3 EN, 4 C-, 5 VDD, 6 C+

## TXB0304RUTR
designator U?
footprint QFN_12
pins: 1 VCCA, 2 A1 , 3 A2, 4 A3, 5 A4, 6 GND, 7 B4, 8 B3, 9 B2, 10 B1, 11 VCCB, 12 OE

## TXS0102YZPR
designator U?
footprint DSBGA_8
pins: A1 B2, A2 B1, B1 GND, B2 VCCB, C1 VCCA, C2 OE, D1 A2, D2 A1

## typeC
designator P?
footprint USB_C_M
pins: A1B12 GND, A4B9 VBUS, A5 CC1, A6 DP1, A7 DN1, A8 SBU1, B1A12 GND, B4A9 VBUS, B5 CC2, B6 DP2, B7 DN2, B8 SBU2

## UC3843
designator U?
C18723586
footprint SOP_8
pins: 1 comp, 2 vfb, 3 isense, 4 rt/ct, 5 gnd, 6 output, 7 vcc, 8 vref

## USB_A_G
designator P?
footprint USB_A_G
pins: 1 VCC, 2 D-, 3 D+, 4 GND

## USB_C_G_C3151751
designator P?
footprint USB_C_G_C3151751
pins: A1, A2, A3, A4, A5, A6, A7, A8, A9, A10, A11, A12, B1, B2, B3, B4, B5, B6, B7, B8, B9, B10, B11, B12

## USBLC6-2SC6
designator U?
USB 2.0高速接口的ESD保护
footprint SOT-23-6
pins: 1 I/O1, 2 GND, 3 I/O2, 4 I/O2, 5 VBUS, 6  I/O1

## W25Q128
designator U?
footprint SOP_8
pins: 1 ~{CS}, 2 DO, 3 ~{WP}, 4 GND, 5 DI, 6 CLK, 7 ~{HOLD}, 8 VCC

## WS2812B_2020
designator U?
footprint SMD2X2
pins: 1 DO, 2 GND, 3 DI, 4 VDD

## XATL
designator Y?
footprint SMD3215_2P
pins: 1 OSC1, 2 OSC2

## XATL_3225
designator Y?
footprint SMD3225
pins: 1  , 2  , 3  , 4  